# Altium schematic symbol library CAP.SchLib: 2 symbols
Pins are listed as number, name and electrical type; pins without a type are passive.

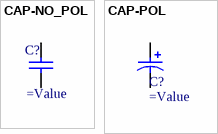
[diagram p0: symbols CAP-NO_POL to CAP-POL]

## CAP-NO_POL
designator C?
pins: 1, 2

## CAP-POL
designator C?
pins: 1, 2
1 alternate drawing of the same symbol